# Altium footprint library PcbLib1.PcbLib: 31 footprints (part 2 of 2)
Each footprint in its own frame and in the unit in brackets; x right, y up, seen from the top. Pads: shape width x height; smd on the part's side, far side on the other; paste and mask are expansions set on the pad; w line width, h text height; cw(c..) or ccw(c..) is an arc to the next point about the centre after c.
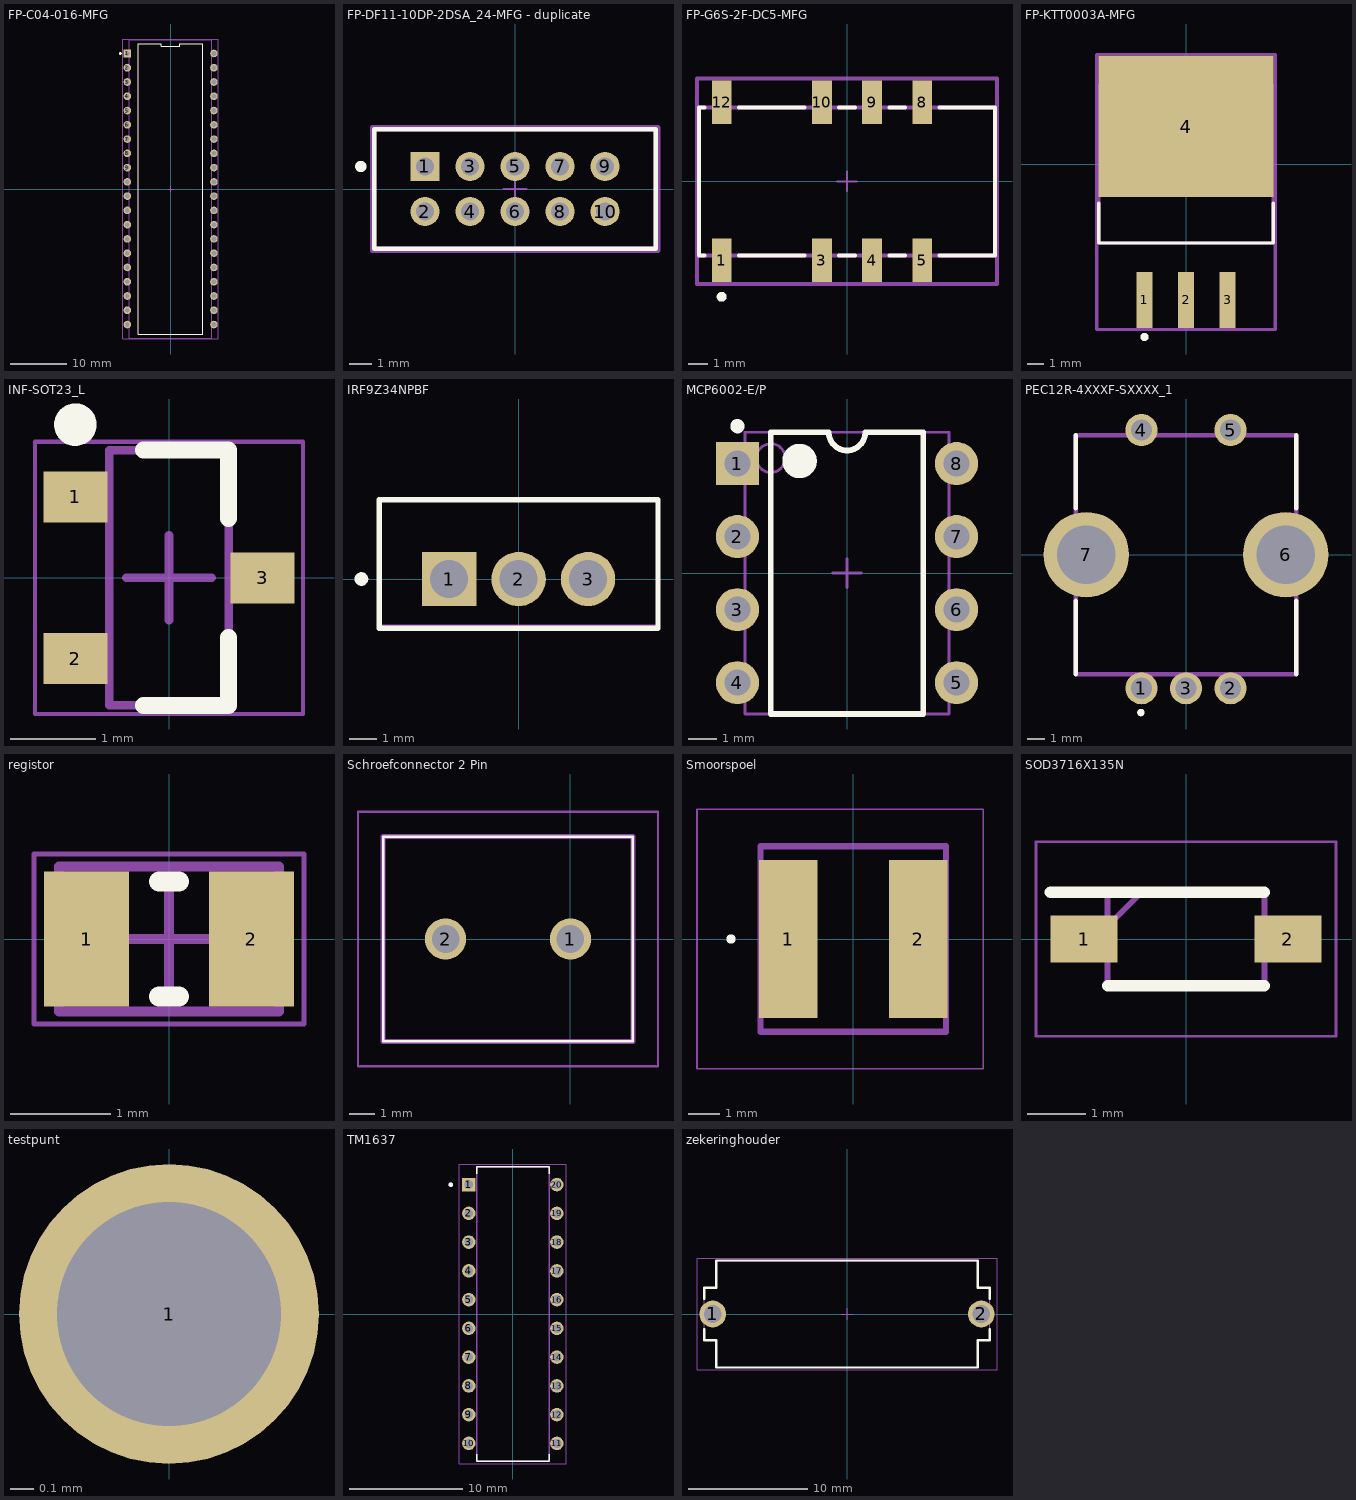
[diagram p1: the footprints below, top view; thin cyan lines are the x and y axes]

## FP-C04-016-MFG [mm]
pads (40):
  rect 1.35x1.35 hole 0.85 paste-2539.97 mask+0: 1(-7.715,24.13)
  round 1.35 hole 0.85 paste-2539.97 mask+0: 2(-7.715,21.59) 3(-7.715,19.05) 4(-7.715,16.51) 5(-7.715,13.97) 6(-7.715,11.43) 7(-7.715,8.89) 8(-7.715,6.35) 9(-7.715,3.81) 10(-7.715,1.27) 11(-7.715,-1.27) 12(-7.715,-3.81) 13(-7.715,-6.35) 14(-7.715,-8.89) 15(-7.715,-11.43) 16(-7.715,-13.97) 17(-7.715,-16.51) 18(-7.715,-19.05) 19(-7.715,-21.59) 20(-7.715,-24.13) 21(7.715,-24.13) 22(7.715,-21.59) 23(7.715,-19.05) 24(7.715,-16.51) 25(7.715,-13.97) 26(7.715,-11.43) 27(7.715,-8.89) 28(7.715,-6.35) 29(7.715,-3.81) 30(7.715,-1.27) 31(7.715,1.27) 32(7.715,3.81) 33(7.715,6.35) 34(7.715,8.89) 35(7.715,11.43) 36(7.715,13.97) 37(7.715,16.51) 38(7.715,19.05) 39(7.715,21.59) 40(7.715,24.13)
Top Overlay:
  circle w0.25: c-8.94,24.13 r0.125
  lines w0.2: -5.763,-25.876 5.763,-25.876 5.763,25.876 1.646,25.876 1.646,25.376 -1.646,25.376 -1.646,25.876 -5.763,25.876 -5.763,-25.876
Top 3D Body:
  lines w0.2: -7.366,-26.607 -7.366,26.607 7.366,26.607 7.366,-26.607 -7.366,-26.607
Top Courtyard:
  lines w0.2: -8.49,-26.706 -8.49,26.706 8.49,26.706 8.49,-26.706 -8.49,-26.706
Top Assembly:
  lines w0.2: -8.49,-26.706 -8.49,26.706 8.49,26.706 8.49,-26.706 -8.49,-26.706
  text ".Designator" at 0,0.189 h1
Top Component Center:
  lines w0.1: -0.5,0 0.5,0 ; 0,-0.5 0,0.5
3D body "IC_Microchip_Technology_PIC18LF47K40-I-P_eec.STEP": height 0.25, standoff 0, extent -8.49,-26.706 8.49,26.706

## FP-DF11-10DP-2DSA_24-MFG - duplicate [mm]
pads (10):
  rect 1.3x1.3 hole 0.8 paste-2539.97 mask+0: 1(-4,1)
  round 1.3 hole 0.8 paste-2539.97 mask+0: 2(-4,-1) 3(-2,1) 4(-2,-1) 5(0,1) 6(0,-1) 7(2,1) 8(2,-1) 9(4,1) 10(4,-1)
Top Overlay:
  circle w0.25: c-6.85,1 r0.125
  lines w0.2: -6.25,-2.65 -6.25,2.65 6.25,2.65 6.25,-2.65 -6.25,-2.65
Top 3D Body:
  lines w0.2: -6.25,-2.65 -6.25,2.65 6.25,2.65 6.25,-2.65 -6.25,-2.65
Top Courtyard:
  lines w0.2: -6.35,-2.75 -6.35,2.75 6.35,2.75 6.35,-2.75 -6.35,-2.75
Top Assembly:
  lines w0.2: -6.35,-2.75 -6.35,2.75 6.35,2.75 6.35,-2.75 -6.35,-2.75
  text ".Designator" at 0,0.189 h1
Top Component Center:
  lines w0.1: -0.5,0 0.5,0 ; 0,-0.5 0,0.5
3D body "Conn_Hirose_DF11-10DP-2DSA_24_eec.STEP": height 0.25, standoff 0, extent -6.35,-2.75 6.35,2.75

## FP-G6S-2F-DC5-MFG [mm]
pads (8):
  rect 1x2.2 smd paste+0 mask+0: 1(-6.35,-4) 3(-1.27,-4) 4(1.27,-4) 5(3.81,-4) 8(3.81,4) 9(1.27,4) 10(-1.27,4) 12(-6.35,4)
Top Overlay:
  circle w0.25: c-6.35,-5.85 r0.125
  lines w0.2: -7.225,-3.75 -7.5,-3.75 -7.5,3.75 -7.225,3.75 ; -5.475,-3.75 -2.145,-3.75 ; -5.475,3.75 -2.145,3.75 ; -0.395,-3.75 0.395,-3.75 ; -0.395,3.75 0.395,3.75 ; 2.145,-3.75 2.935,-3.75 ; 2.145,3.75 2.935,3.75 ; 4.685,-3.75 7.5,-3.75 7.5,3.75 4.685,3.75
Top 3D Body:
  lines w0.2: -7.5,-3.75 7.5,-3.75 7.5,3.75 -7.5,3.75 -7.5,-3.75
Top Courtyard:
  lines w0.2: -7.6,-5.2 7.6,-5.2 7.6,5.2 -7.6,5.2 -7.6,-5.2
Top Assembly:
  lines w0.2: -7.6,-5.2 7.6,-5.2 7.6,5.2 -7.6,5.2 -7.6,-5.2
  text ".Designator" at 0,0 h1
Top Component Center:
  lines w0.1: -0.5,0 0.5,0 ; 0,-0.5 0,0.5
3D body "Relay_Omron_G6S-2F-DC5_eec.STEP": height 0.25, standoff 0, extent -7.6,-5.2 7.6,5.2

## FP-KTT0003A-MFG [mm]
pads (4):
  rect 1x3.4 smd paste-1000 mask+0: 1(-2.54,-8.303) 2(0,-8.303) 3(2.54,-8.303)
  rect 10.7x8.6 smd paste-1000 mask+0: 4(0,2.298)
Top Overlay:
  circle w0.25: c-2.54,-10.562 r0.125
  lines w0.2: -5.335,-2.378 -5.335,-4.825 5.335,-4.825 5.335,-2.378
Top Paste:
  rectangle: -3.015,-9.952 -2.065,-6.652
  rectangle: -0.475,-9.952 0.475,-6.652
  rectangle: 2.065,-9.952 3.015,-6.652
  rectangle: -5.3,-1.953 5.3,6.548
Top 3D Body:
  lines w0.2: -5.335,-4.825 5.335,-4.825 5.335,4.825 -5.335,4.825 -5.335,-4.825
Top Courtyard:
  lines w0.2: -5.45,-10.102 5.45,-10.102 5.45,6.697 -5.45,6.697 -5.45,-10.102
Top Assembly:
  lines w0.2: -5.45,-10.102 5.45,-10.102 5.45,6.697 -5.45,6.697 -5.45,-10.102
  text ".Designator" at 0,-1.702 h1
Top Component Center:
  lines w0.1: -0.5,0 0.5,0 ; 0,-0.5 0,0.5
3D body "IC_Texas_Instruments_TL783CKTTR_eec.STEP": height 0.25, standoff 0, extent -5.45,-10.102 5.45,6.697

## INF-SOT23_L [mm] "SOT23, 3-Leads, Body 2.9x1.3 mm, Pitch 0.95 mm, IPC High Density"
height 1.1
pads (3):
  rect 0.75x0.6 smd: 1(-1.1,0.95) 2(-1.1,-0.95) 3(1.1,0)
Top Overlay:
  circle w0.25: c-1.1,1.8 r0.125
  lines w0.2: -0.3,-1.5 0.7,-1.5 0.7,-0.7 ; -0.3,1.5 0.7,1.5 0.7,0.7
Mechanical 13:
  lines w0.1: -0.7,-1.5 -0.7,1.5 0.7,1.5 0.7,-1.5 -0.7,-1.5
Mechanical 15:
  lines w0.05: -1.575,-1.6 -1.575,1.6 1.575,1.6 1.575,-1.6 -1.575,-1.6
  lines w0.1: -0.5,0 0.5,0 ; 0,-0.5 0,0.5
3D body: height 1.1, standoff 0.1, extent -0.7,-1.5 0.7,1.5

## IRF9Z34NPBF [mm] "TO,flange mount,2.54 mm pitch, 3 pin, 10.16 mm L X 4.57 mm W X 20.56 mm H body"
height 20.56
pads (3):
  rect 1.99x1.99 hole 1.39 paste-2539.97 mask+0: 1(-2.54,0)
  round 1.99 hole 1.39 paste-2539.97 mask+0: 2(0,0) 3(2.54,0)
Top Overlay:
  circle w0.25: c-5.75,0 r0.125
  lines w0.2: -5.1,-1.8 -5.1,2.9 5.1,2.9 5.1,-1.8 -5.1,-1.8
Mechanical 13:
  lines w0.1: -5.08,-1.71 -5.08,2.86 5.08,2.86 5.08,-1.71 -5.08,-1.71
Mechanical 15:
  lines w0.1: -0.5,0 0.5,0 ; 0,-0.5 0,0.5
3D body "PG-TO220-3-904_Z8B00198139_V06_3D.stp": height 19.84, standoff -10.77, extent -5.156,-1.72 5.156,2.86

## MCP6002-E/P [mm] "8-Pin Plastic Dual In-Line Package (PDIP)"
height 5.34
pads (8):
  rect 1.5x1.5 hole 0.9: 1(-3.81,3.81)
  round 1.5 hole 0.9: 2(-3.81,1.27) 3(-3.81,-1.27) 4(-3.81,-3.81) 5(3.81,-3.81) 6(3.81,-1.27) 7(3.81,1.27) 8(3.81,3.81)
Top Overlay:
  circle w0.6: c-1.65,3.9 r0.3
  circle w0.25: c-3.81,5.11 r0.125
  lines w0.2: -2.65,-4.9 2.65,-4.9 2.65,4.9 0.635,4.9 cw(c0,4.9) -0.635,4.9 -2.65,4.9 -2.65,-4.9
Mechanical 13:
  circle w0.1: c-2.65,4 r0.5
  lines w0.1: -3.55,-4.9 3.55,-4.9 3.55,4.9 -3.55,4.9 -3.55,-4.9
Mechanical 15:
  lines w0.1: -0.5,0 0.5,0 ; 0,-0.5 0,0.5
3D body: height 4.32, standoff 0, extent -3.55,-4.9 3.55,4.9

## PEC12R-4XXXF-SXXXX_1 [mm]
pads (7):
  round 1.8 hole 1.2: 1(-2.5,-7.5) 2(2.5,-7.5) 3(0,-7.5) 4(-2.5,7) 5(2.5,7)
  round 4.8 hole 3.28: 6(5.6,0) 7(-5.6,0)
Top Overlay:
  circle w0.254: c-2.533,-8.863 r0.082
  lines w0.254: -6.2,-6.7 -6.2,-2.6 ; -6.2,2.6 -6.2,6.7 ; 6.2,-6.7 6.2,-2.6 ; 6.2,2.6 6.2,6.7
Mechanical 13:
  lines w0.254: -6.2,-6.7 -6.2,6.7 6.2,6.7 6.2,-6.7 -6.2,-6.7
3D body "PEC11R-4225F-S0024.stp": height 31.51, standoff -3.69, extent -7.005,-7.751 6.995,7.149

## registor [mm] "Chip Resistor, 2-Leads, Body 2.00x1.25mm, IPC High Density"
height 0.5
pads (2):
  rect 0.85x1.35 smd: 1(-0.825,0) 2(0.825,0)
Top Overlay:
  lines w0.2: -0.1,-0.575 0.1,-0.575 ; -0.1,0.575 0.1,0.575
Mechanical 13:
  lines w0.1: -1.1,-0.725 -1.1,0.725 1.1,0.725 1.1,-0.725 -1.1,-0.725
Mechanical 15:
  lines w0.05: -1.35,-0.85 -1.35,0.85 1.35,0.85 1.35,-0.85 -1.35,-0.85
  lines w0.1: -0.5,0 0.5,0 ; 0,-0.5 0,0.5
3D body: height 0.5, standoff 0, extent -0.8,-0.725 0.8,0.725
3D body: height 0.5, standoff 0, extent -1.1,-0.725 -0.8,0.725
3D body: height 0.5, standoff 0, extent 0.8,-0.725 1.1,0.725

## Schroefconnector 2 Pin [mm]
pads (2):
  round 1.65 hole 1.1: 1(0,0) 2(-5,0)
Top Overlay:
  lines w0.1: -7.5,-4.1 2.5,-4.1 2.5,4.1 -7.5,4.1 -7.5,-4.1
Mechanical 13:
  lines w0.2: -7.5,-4.1 -7.5,4.1 2.5,4.1 2.5,-4.1 -7.5,-4.1
Mechanical 15:
  lines w0.1: -8.5,-5.1 3.5,-5.1 3.5,5.1 -8.5,5.1 -8.5,-5.1
3D body "282836-2.stp": height 10.02, standoff -3.48, extent -8.09,-4.1 2.51,4.1

## Smoorspoel [mm] "10uH"
pads (2):
  rect 1.9x5.1 smd: 1(-2.1,0) 2(2.1,0)
Top Overlay:
  circle w0.2: c-3.95,0 r0.05
Mechanical 13:
  lines w0.2: -3,-3 3,-3 3,3 -3,3 -3,-3
Mechanical 15:
  lines w0.05: -5.05,-4.2 4.2,-4.2 4.2,4.2 -5.05,4.2 -5.05,-4.2
3D body "VLS6045EX-100M-H.stp": height 4.5, standoff 0.01, extent -3.15,-3 3.15,3

## SOD3716X135N [mm]
pads (2):
  rect 1.15x0.8 smd: 1(-1.75,0) 2(1.75,0)
Top Overlay:
  lines w0.2: -2.325,0.8 1.345,0.8 ; -1.345,-0.8 1.345,-0.8
Mechanical 13:
  lines w0.1: -1.345,0.225 -0.77,0.8 ; -1.345,-0.8 -1.345,0.8 1.345,0.8 1.345,-0.8 -1.345,-0.8
Mechanical 15:
  lines w0.05: -2.575,-1.67 -2.575,1.67 2.575,1.67 2.575,-1.67 -2.575,-1.67
3D body "MMSZ4689T1G.stp": height 1.35, standoff 0, extent -1.855,-0.8 1.855,0.8

## testpunt [mm]
pads (1):
  round 1.27 hole 0.95: 1(0,0)

## TM1637 [mm]
pads (20):
  rect 1.19x1.19 hole 0.79: 1(-3.89,11.43)
  round 1.19 hole 0.79: 2(-3.89,8.89) 3(-3.89,6.35) 4(-3.89,3.81) 5(-3.89,1.27) 6(-3.89,-1.27) 7(-3.89,-3.81) 8(-3.89,-6.35) 9(-3.89,-8.89) 10(-3.89,-11.43) 11(3.89,-11.43) 12(3.89,-8.89) 13(3.89,-6.35) 14(3.89,-3.81) 15(3.89,-1.27) 16(3.89,1.27) 17(3.89,3.81) 18(3.89,6.35) 19(3.89,8.89) 20(3.89,11.43)
Top Overlay:
  circle w0.2: c-5.485,11.43 r0.1
  lines w0.127: -3.2,-12.375 -3.2,-13 3.2,-13 3.2,-12.375 ; -3.2,12.375 -3.2,13 3.2,13 3.2,12.375
Mechanical 13:
  circle w0.2: c-5.485,11.43 r0.1
  lines w0.127: -3.2,-13 -3.2,13 3.2,13 3.2,-13 -3.2,-13
Mechanical 15:
  lines w0.05: -4.735,-13.25 4.735,-13.25 4.735,13.25 -4.735,13.25 -4.735,-13.25
3D body "step_temp.STEP": height 4.31, standoff -3.6, extent -4.03,-13 4.03,13

## zekeringhouder [mm] "FUSEHOLDER BLOCKS - PCB - CLIP COVER - THT"
height 13.5
pads (2):
  round 2.25 hole 1.5: 1(-11.3,0) 2(11.3,0)
Top Overlay:
  lines w0.2: -12,-1.26 -12,-2.21 -11,-2.21 -11,-4.5 11,-4.5 11,-2.21 12,-2.21 12,-1.26 ; -12,1.26 -12,2.21 -11,2.21 -11,4.5 11,4.5 11,2.21 12,2.21 12,1.26
Top 3D Body:
  lines w0.1: -12,-2.21 -11,-2.21 -11,-4.5 11,-4.5 11,-2.21 12,-2.21 12,2.21 11,2.21 11,4.5 -11,4.5 -11,2.21 -12,2.21 -12,-2.21
Top Courtyard:
  lines w0.05: -0.5,0 0.5,0 ; 0,-0.5 0,0.5 ; -12.625,-4.7 -12.625,4.7 12.625,4.7 12.625,-4.7 -12.625,-4.7
Top Designator:
  text ".Designator" at -7.498,-0.5 h1.5
Top Component Outline:
  lines w0.1: -12,-2.21 -12,2.21 -11,2.21 -11,4.5 11,4.5 11,2.21 12,2.21 12,-2.21 11,-2.21 11,-4.5 -11,-4.5 -11,-2.21 -12,-2.21
3D body "696101000002.stp": height 13.55, standoff -4.45, extent -12,-4.5 12,4.5